# EAGLE library part AS5048A (library misc)
360° angle position sensor with a 14-bit high resolution output.
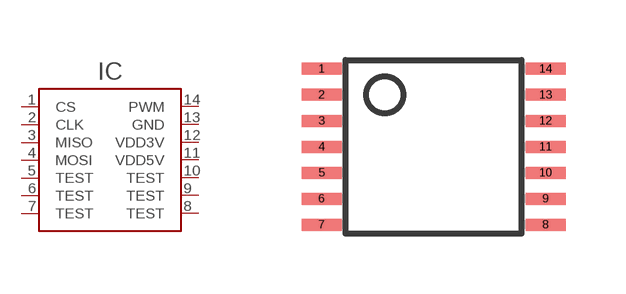
[diagram p91: symbol with the pads of TSSOP14; footprint TSSOP14]

Designator prefix IC

## AS5048A (LCSC#: C2153638; MANF: Advanced Monolithic Systems; MANF#: AS5048A)  [TSSOP14]
1  CS
2  CLK
3  MISO
4  MOSI
5  TEST
6  TEST
7  TEST
8  TEST
9  TEST
10  TEST
11  VDD5V
12  VDD3V
13  GND
14  PWM

## Footprint TSSOP14 (pad centres in mm)
Thin Shrink Small Outline Plastic 16 3D model <https://grabcad.com/library/msop-and-tssop-packages-1>
smd 1 x 0.3: 1 -2.8,1.95; 2 -2.8,1.3; 3 -2.8,0.65; 4 -2.8,0; 5 -2.8,-0.65; 6 -2.8,-1.3; 7 -2.8,-1.95; 8 2.8,-1.95; 9 2.8,-1.3; 10 2.8,-0.65; 11 2.8,0; 12 2.8,0.65; 13 2.8,1.3; 14 2.8,1.95